# Altium integrated library B3F-5050.IntLib: 1 symbol
Pins are listed as number, name and electrical type; pins without a type are passive.

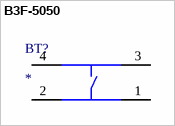
[diagram p0: symbol B3F-5050]

## B3F-5050
designator BT?
footprint B3F-5050
pins: 1, 2, 3, 4